# Altium schematic symbol library SCH - ANNOTATION - SERIAL.SCHLIB: 1 symbol
Pins are listed as number, name and electrical type; pins without a type are passive.

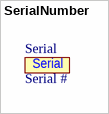
[diagram p0: symbol SerialNumber]

## SerialNumber
designator Serial, comment Serial #  (no BOM)
Empty serial number of the PCB. Can be used for manually writing the serial number